# EAGLE library part MX4660-CN1 (library mx4660-cape)
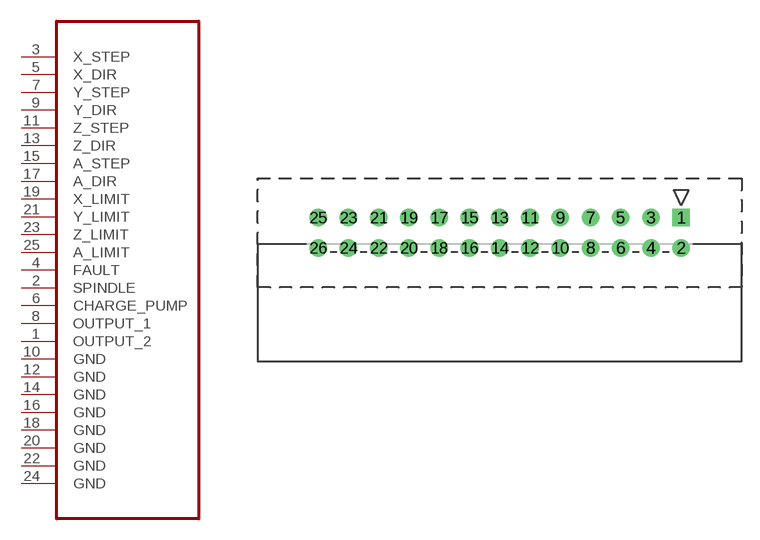
[diagram p5: symbol with the pads of HEADER-26-RA; footprint HEADER-26-RA]

Designator prefix J

## MX4660-CN1  [HEADER-26-RA]
1  OUTPUT_2  in
2  SPINDLE  in
3  X_STEP  in
4  FAULT  out
5  X_DIR  in
6  CHARGE_PUMP  in
7  Y_STEP  in
8  OUTPUT_1  in
9  Y_DIR  in
10  GND  pwr
11  Z_STEP  in
12  GND  pwr
13  Z_DIR  in
14  GND  pwr
15  A_STEP  in
16  GND  pwr
17  A_DIR  in
18  GND  pwr
19  X_LIMIT  out
20  GND  pwr
21  Y_LIMIT  out
22  GND  pwr
23  Z_LIMIT  out
24  GND  pwr
25  A_LIMIT  out

## Footprint HEADER-26-RA (pad centres in mm)
drill 0.965 square: 1 15.24,12.065
drill 0.965: 2 15.24,9.525; 3 12.7,12.065; 4 12.7,9.525; 5 10.16,12.065; 6 10.16,9.525; 7 7.62,12.065; 8 7.62,9.525; 9 5.08,12.065; 10 5.08,9.525; 11 2.54,12.065; 12 2.54,9.525; 13 0,12.065; 14 0,9.525; 15 -2.54,12.065; 16 -2.54,9.525; 17 -5.08,12.065; 18 -5.08,9.525; 19 -7.62,12.065; 20 -7.62,9.525; 21 -10.16,12.065; 22 -10.16,9.525; 23 -12.7,12.065; 24 -12.7,9.525; 25 -15.24,12.065; 26 -15.24,9.525